# EAGLE library part USB1T20MTCX (library Fairchild_By_element14_Batch_1)
Universal Serial Bus Transceiver
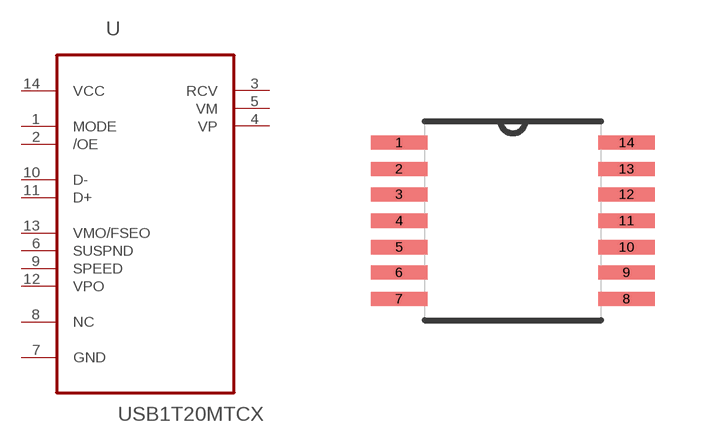
[diagram p383: symbol with the pads of SOP65P640X120-14N; footprint SOP65P640X120-14N]

Designator prefix U

## USB1T20MTCX (MPN: USB1T20MTCX; OC_FARNELL: 1564484; OC_NEWARK: 60J2057; PACKAGE: TSSOP-14; SUPPLIER: FAIRCHILD)  [SOP65P640X120-14N]
1  MODE  in
2  /OE  in
3  RCV  out
4  VP  out
5  VM  out
6  SUSPND  in
7  GND  pas
8  NC  nc
9  SPEED  in
10  D-
11  D+
12  VPO  in
13  VMO/FSEO  in
14  VCC  pwr

## Footprint SOP65P640X120-14N (pad centres in mm)
smd 1.422 x 0.356: 1 -2.845,1.956; 2 -2.845,1.295; 3 -2.845,0.66; 4 -2.845,0; 5 -2.845,-0.66; 6 -2.845,-1.295; 7 -2.845,-1.956; 8 2.845,-1.956; 9 2.845,-1.295; 10 2.845,-0.66; 11 2.845,0; 12 2.845,0.66; 13 2.845,1.295; 14 2.845,1.956